# EAGLE library part HDR-100-11 (library con-molex-kk)
HEADER
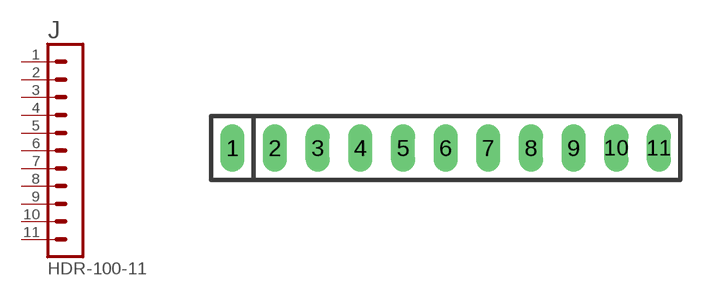
[diagram p148: symbol with the pads of HDR-100-11; footprint HDR-100-11]

Designator prefix J

## HDR-100-11  [HDR-100-11]
1  1  pas
2  2  pas
3  3  pas
4  4  pas
5  5  pas
6  6  pas
7  7  pas
8  8  pas
9  9  pas
10  10  pas
11  11  pas

## Footprint HDR-100-11 (pad centres in mm)
HEADER - pitch 0.1"
drill 0.914 long: 1 -12.7,0; 2 -10.16,0; 3 -7.62,0; 4 -5.08,0; 5 -2.54,0; 6 0,0; 7 2.54,0; 8 5.08,0; 9 7.62,0; 10 10.16,0; 11 12.7,0